# Altium schematic symbol library 10k SMD Direnç.SchLib: 1 symbol
Pins are listed as number, name and electrical type; pins without a type are passive.

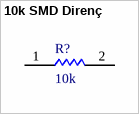
[diagram p0: symbol 10k SMD Direnç]

## 10k SMD Direnç
designator R?, comment 10k
footprint 10k SMD Direnç
pins: 1, 2